# EAGLE library part TB6612 (library tb6612)
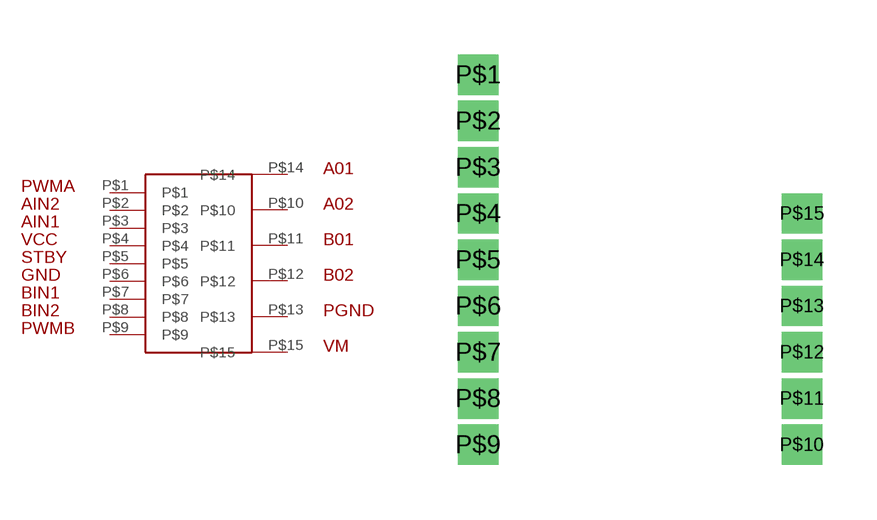
[diagram p0: symbol with the pads of TB6612; footprint TB6612]

Designator prefix MD

## TB6612  [TB6612]
P$1  P$1
P$2  P$2
P$3  P$3
P$4  P$4
P$5  P$5
P$6  P$6
P$7  P$7
P$8  P$8
P$9  P$9
P$10  P$10
P$11  P$11
P$12  P$12
P$13  P$13
P$14  P$14
P$15  P$15

## Footprint TB6612 (pad centres in mm)
drill 0.6 square: P$1 -5.08,5.08; P$2 -5.08,3.81; P$3 -5.08,2.54; P$4 -5.08,1.27; P$5 -5.08,0; P$6 -5.08,-1.27; P$7 -5.08,-2.54; P$8 -5.08,-3.81; P$9 -5.08,-5.08; P$10 3.81,-5.08; P$11 3.81,-3.81; P$12 3.81,-2.54; P$13 3.81,-1.27; P$14 3.81,0; P$15 3.81,1.27